# Altium footprint library MAX22246CAWA+.PcbLib: 3 footprints
Each footprint in its own frame and in the unit in brackets; x right, y up, seen from the top. Pads: shape width x height; smd on the part's side, far side on the other; paste and mask are expansions set on the pad; w line width, h text height; cw(c..) or ccw(c..) is an arc to the next point about the centre after c.
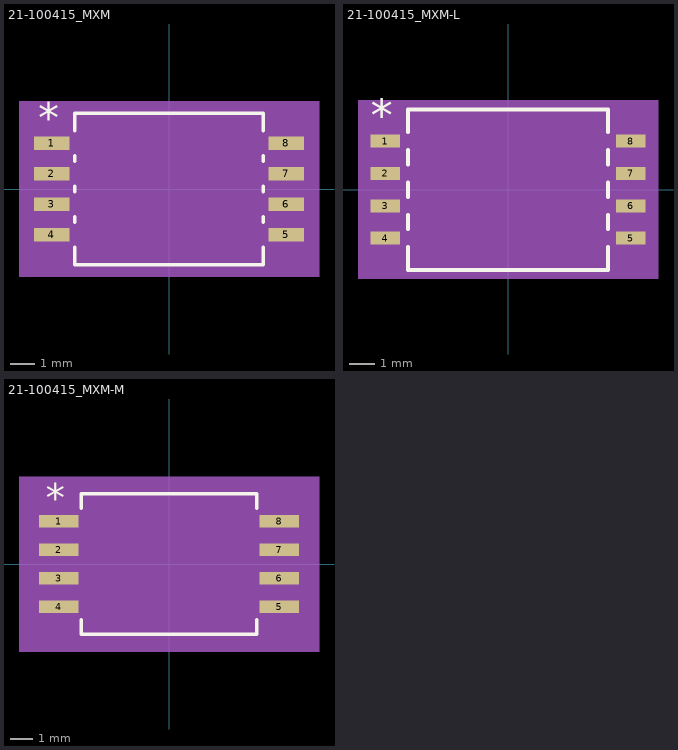
[diagram p0: the footprints below, top view; thin cyan lines are the x and y axes]

## 21-100415_MXM [mil]
pads (8):
  rect 58x22 smd paste+0 mask+0: 1(-192,75) 2(-192,25) 3(-192,-25) 4(-192,-75) 5(192,-75) 6(192,-25) 7(192,25) 8(192,75)
Top Overlay:
  lines w6: -154.5,-95.97 -154.5,-124 154.5,-124 154.5,-95.97 ; -154.5,-54.03 -154.5,-45.97 ; -154.5,-4.03 -154.5,4.03 ; -154.5,45.97 -154.5,54.03 ; -154.5,95.97 -154.5,124 154.5,124 154.5,95.97 ; 154.5,-54.03 154.5,-45.97 ; 154.5,-4.03 154.5,4.03 ; 154.5,45.97 154.5,54.03
  text "*" at -214.5,92 h50
Mechanical 5:
  region: 246,-144 -246,-144 -246,144 246,144
Mechanical 13:
  lines w0: -12,119 ccw(c0,119) 12,119
  lines w1: -207,-85 -207,-65 -149.5,-65 -149.5,-85 -207,-85 ; -207,-35 -207,-15 -149.5,-15 -149.5,-35 -207,-35 ; -207,15 -207,35 -149.5,35 -149.5,15 -207,15 ; -207,65 -207,85 -149.5,85 -149.5,65 -207,65 ; -149.5,-119 149.5,-119 149.5,119 -149.5,119 -149.5,-119 ; 149.5,-85 149.5,-65 207,-65 207,-85 149.5,-85 ; 149.5,-35 149.5,-15 207,-15 207,-35 149.5,-35 ; 149.5,15 149.5,35 207,35 207,15 149.5,15 ; 149.5,65 149.5,85 207,85 207,65 149.5,65
  text "*" at -147,66 h50
Mechanical 15:
  region: -159.5,-96 -231,-96 -231,96 -159.5,96 -159.5,129 159.5,129 159.5,96 231,96 231,-96 159.5,-96 159.5,-129 -159.5,-129
  lines w6: -231,-96 -231,96 -159.5,96 -159.5,129 159.5,129 159.5,96 231,96 231,-96 159.5,-96 159.5,-129 -159.5,-129 -159.5,-96 -231,-96
3D body "21-100415_MXM.step": height 104.09, standoff 0, extent -207.01,-119.02 207.01,119.02

## 21-100415_MXM-L [mil]
pads (8):
  rect 46x20 smd paste+0 mask+0: 1(-190,75) 2(-190,25) 3(-190,-25) 4(-190,-75) 5(190,-75) 6(190,-25) 7(190,25) 8(190,75)
Top Overlay:
  lines w6: -154.5,-88.92 -154.5,-124 154.5,-124 154.5,-88.92 ; -154.5,-61.08 -154.5,-38.92 ; -154.5,-11.08 -154.5,11.08 ; -154.5,38.92 -154.5,61.08 ; -154.5,88.92 -154.5,124 154.5,124 154.5,88.92 ; 154.5,-61.08 154.5,-38.92 ; 154.5,-11.08 154.5,11.08 ; 154.5,38.92 154.5,61.08
  text "*" at -212.5,90 h50
Mechanical 5:
  region: 232,-138 -232,-138 -232,138 232,138
Mechanical 13:
  lines w0: -12,119 ccw(c0,119) 12,119
  lines w1: -207,-85 -207,-65 -149.5,-65 -149.5,-85 -207,-85 ; -207,-35 -207,-15 -149.5,-15 -149.5,-35 -207,-35 ; -207,15 -207,35 -149.5,35 -149.5,15 -207,15 ; -207,65 -207,85 -149.5,85 -149.5,65 -207,65 ; -149.5,-119 149.5,-119 149.5,119 -149.5,119 -149.5,-119 ; 149.5,-85 149.5,-65 207,-65 207,-85 149.5,-85 ; 149.5,-35 149.5,-15 207,-15 207,-35 149.5,-35 ; 149.5,15 149.5,35 207,35 207,15 149.5,15 ; 149.5,65 149.5,85 207,85 207,65 149.5,65
  text "*" at -147,66 h50
Mechanical 15:
  region: -153.5,-89 -217,-89 -217,89 -153.5,89 -153.5,123 153.5,123 153.5,89 217,89 217,-89 153.5,-89 153.5,-123 -153.5,-123
  lines w6: -217,-89 -217,89 -153.5,89 -153.5,123 153.5,123 153.5,89 217,89 217,-89 153.5,-89 153.5,-123 -153.5,-123 -153.5,-89 -217,-89
3D body "21-100415_MXM.step": height 104.09, standoff 0, extent -207.01,-119.02 207.01,119.02

## 21-100415_MXM-M [mil]
pads (8):
  rect 70x22 smd paste+0 mask+0: 1(-194,75) 2(-194,25) 3(-194,-25) 4(-194,-75) 5(194,-75) 6(194,-25) 7(194,25) 8(194,75)
Top Overlay:
  lines w6: -154.5,-98.3 -154.5,-124 154.5,-124 154.5,-98.3 ; -154.5,98.3 -154.5,124 154.5,124 154.5,98.3
  text "*" at -216.5,92 h50
Mechanical 5:
  region: 264,-154 -264,-154 -264,154 264,154
Mechanical 13:
  lines w0: -12,119 ccw(c0,119) 12,119
  lines w1: -207,-85 -207,-65 -149.5,-65 -149.5,-85 -207,-85 ; -207,-35 -207,-15 -149.5,-15 -149.5,-35 -207,-35 ; -207,15 -207,35 -149.5,35 -149.5,15 -207,15 ; -207,65 -207,85 -149.5,85 -149.5,65 -207,65 ; -149.5,-119 149.5,-119 149.5,119 -149.5,119 -149.5,-119 ; 149.5,-85 149.5,-65 207,-65 207,-85 149.5,-85 ; 149.5,-35 149.5,-15 207,-15 207,-35 149.5,-35 ; 149.5,15 149.5,35 207,35 207,15 149.5,15 ; 149.5,65 149.5,85 207,85 207,65 149.5,65
  text "*" at -147,66 h50
Mechanical 15:
  region: -169.5,-106 -249,-106 -249,106 -169.5,106 -169.5,139 169.5,139 169.5,106 249,106 249,-106 169.5,-106 169.5,-139 -169.5,-139
  lines w6: -249,-106 -249,106 -169.5,106 -169.5,139 169.5,139 169.5,106 249,106 249,-106 169.5,-106 169.5,-139 -169.5,-139 -169.5,-106 -249,-106
3D body "21-100415_MXM.step": height 104.09, standoff 0, extent -207.01,-119.02 207.01,119.02